# EAGLE library part KW21Z (library BQ25504)
NXP KW21Z Cortex M0+ 802.15.4
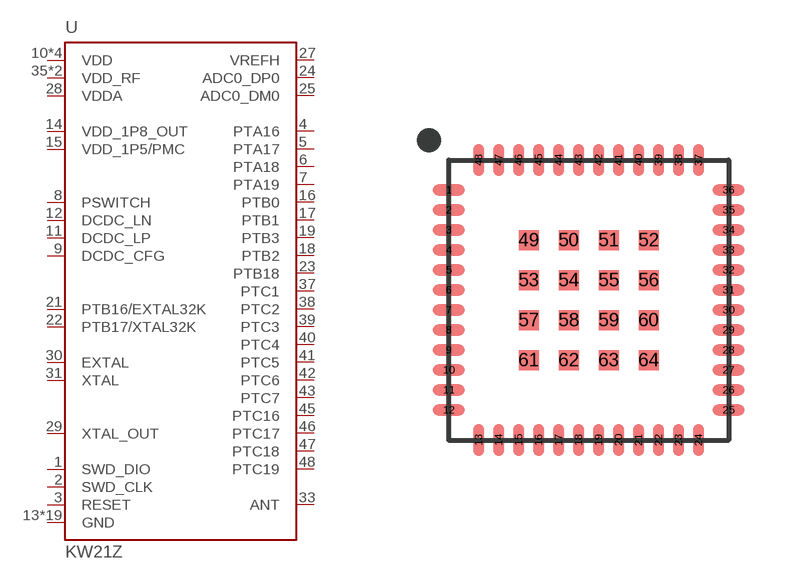
[diagram p89: symbol with the pads of LAMINATE-QFN-48-7MM; footprint LAMINATE-QFN-48-7MM]

Designator prefix -

## KW21Z (DIGIKEY: MKW21Z256VHT4-ND; MPN: MKW21Z256VHT4)  [LAMINATE-QFN-48-7MM]
1  SWD_DIO
2  SWD_CLK
3  RESET
4  PTA16
5  PTA17
6  PTA18
7  PTA19
8  PSWITCH
9  DCDC_CFG
10  VDD
11  DCDC_LP
12  DCDC_LN
13  GND
14  VDD_1P8_OUT
15  VDD_1P5/PMC
16  PTB0
17  PTB1
18  PTB2
19  PTB3
20  VDD
21  PTB16/EXTAL32K
22  PTB17/XTAL32K
23  PTB18
24  ADC0_DP0
25  ADC0_DM0
26  GND
27  VREFH
28  VDDA
29  XTAL_OUT
30  EXTAL
31  XTAL
32  VDD
33  ANT
34  GND
35  VDD_RF
36  VDD_RF
37  PTC1
38  PTC2
39  PTC3
40  PTC4
41  PTC5
42  PTC6
43  PTC7
44  VDD
45  PTC16
46  PTC17
47  PTC18
48  PTC19
49  GND
50  GND
51  GND
52  GND
53  GND
54  GND
55  GND
56  GND
57  GND
58  GND
59  GND
60  GND
61  GND
62  GND
63  GND
64  GND

## Footprint LAMINATE-QFN-48-7MM (pad centres in mm)
7MM x 7MM 48 QFN package
smd 0.8 x 0.28: 1 -3.5,2.75; 2 -3.5,2.25; 3 -3.5,1.75; 4 -3.5,1.25; 5 -3.5,0.75; 6 -3.5,0.25; 7 -3.5,-0.25; 8 -3.5,-0.75; 9 -3.5,-1.25; 10 -3.5,-1.75; 11 -3.5,-2.25; 12 -3.5,-2.75; 25 3.5,-2.75; 26 3.5,-2.25; 27 3.5,-1.75; 28 3.5,-1.25; 29 3.5,-0.75; 30 3.5,-0.25; 31 3.5,0.25; 32 3.5,0.75; 33 3.5,1.25; 34 3.5,1.75; 35 3.5,2.25; 36 3.5,2.75
smd 0.28 x 0.8: 13 -2.75,-3.5; 14 -2.25,-3.5; 15 -1.75,-3.5; 16 -1.25,-3.5; 17 -0.75,-3.5; 18 -0.25,-3.5; 19 0.25,-3.5; 20 0.75,-3.5; 21 1.25,-3.5; 22 1.75,-3.5; 23 2.25,-3.5; 24 2.75,-3.5; 37 2.75,3.5; 38 2.25,3.5; 39 1.75,3.5; 40 1.25,3.5; 41 0.75,3.5; 42 0.25,3.5; 43 -0.25,3.5; 44 -0.75,3.5; 45 -1.25,3.5; 46 -1.75,3.5; 47 -2.25,3.5; 48 -2.75,3.5
smd 0.5 x 0.5: 49 -1.5,1.5; 50 -0.5,1.5; 51 0.5,1.5; 52 1.5,1.5; 53 -1.5,0.5; 54 -0.5,0.5; 55 0.5,0.5; 56 1.5,0.5; 57 -1.5,-0.5; 58 -0.5,-0.5; 59 0.5,-0.5; 60 1.5,-0.5; 61 -1.5,-1.5; 62 -0.5,-1.5; 63 0.5,-1.5; 64 1.5,-1.5